# Altium footprint library PcbLib.PcbLib: 21 footprints (part 2 of 2)
Each footprint in its own frame and in the unit in brackets; x right, y up, seen from the top. Pads: shape width x height; smd on the part's side, far side on the other; paste and mask are expansions set on the pad; w line width, h text height; cw(c..) or ccw(c..) is an arc to the next point about the centre after c.
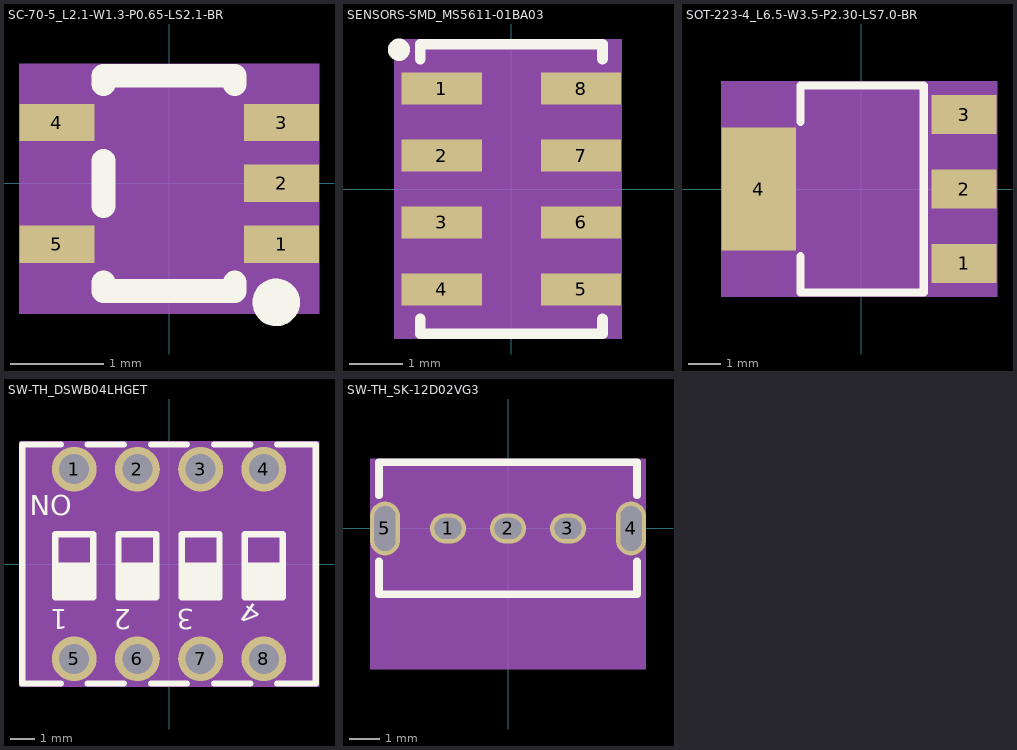
[diagram p1: the footprints below, top view; thin cyan lines are the x and y axes]

## SC-70-5_L2.1-W1.3-P0.65-LS2.1-BR [mm]
pads (5):
  rect 0.8x0.4 smd: 1(1.2,-0.65) 2(1.2,0) 3(1.2,0.65) 4(-1.2,0.65) 5(-1.2,-0.65)
Top Overlay:
  circle w0.254: c1.143,-1.27 r0.127
  lines w0.254: -0.7,-1.058 -0.7,-1.15 0.7,-1.15 0.7,-1.058 ; -0.7,-0.242 -0.7,0.242 ; -0.7,1.058 -0.7,1.15 0.7,1.15 0.7,1.058
Mechanical 4:
  region: -1.604,1.277 1.6,1.277 1.6,-1.393 -1.604,-1.393
Mechanical 5:
  region: 0.8,-0.45 1.6,-0.45 1.6,-0.85 0.8,-0.85
  region: 0.8,0.2 1.6,0.2 1.6,-0.2 0.8,-0.2
  region: 0.8,0.85 1.6,0.85 1.6,0.45 0.8,0.45
  region: -1.6,0.85 -0.8,0.85 -0.8,0.45 -1.6,0.45
  region: -1.6,-0.45 -0.8,-0.45 -0.8,-0.85 -1.6,-0.85

## SENSORS-SMD_MS5611-01BA03 [mm]
pads (8):
  rect 1.5x0.6 smd: 1(-1.3,1.875) 2(-1.3,0.625) 3(-1.3,-0.625) 4(-1.3,-1.875) 5(1.3,-1.875) 6(1.3,-0.625) 7(1.3,0.625) 8(1.3,1.875)
Top Overlay:
  lines w0.2: -1.7,-2.425 -1.7,-2.7 1.7,-2.7 1.7,-2.425 ; -1.7,2.425 -1.7,2.7 1.7,2.7 1.7,2.425
  lines w0.254: -2.019,2.598 cw(c-2.099,2.6) -2.019,2.601
Mechanical 4:
  region: -2.184,2.8 2.057,2.8 2.057,-2.8 -2.184,-2.8
Mechanical 5:
  region: -2.05,2.175 -0.55,2.175 -0.55,1.575 -2.05,1.575
  region: -2.05,0.925 -0.55,0.925 -0.55,0.325 -2.05,0.325
  region: -2.05,-0.325 -0.55,-0.325 -0.55,-0.925 -2.05,-0.925
  region: -2.05,-1.575 -0.55,-1.575 -0.55,-2.175 -2.05,-2.175
  region: 0.55,-1.575 2.05,-1.575 2.05,-2.175 0.55,-2.175
  region: 0.55,-0.325 2.05,-0.325 2.05,-0.925 0.55,-0.925
  region: 0.55,0.925 2.05,0.925 2.05,0.325 0.55,0.325
  region: 0.55,2.175 2.05,2.175 2.05,1.575 0.55,1.575

## SOT-223-4_L6.5-W3.5-P2.30-LS7.0-BR [mm]
pads (4):
  rect 2x1.2 smd: 1(3.175,-2.3) 2(3.175,0) 3(3.175,2.3)
  rect 2.3x3.8 smd: 4(-3.175,0)
Top Overlay:
  lines w0.254: -1.875,-2.075 -1.875,-3.2 1.925,-3.2 1.925,3.2 -1.875,3.2 -1.875,2.075
Mechanical 4:
  region: -4.325,3.327 4.19,3.327 4.19,-3.327 -4.325,-3.327
Mechanical 5:
  region: 2.175,-1.7 4.175,-1.7 4.175,-2.9 2.175,-2.9
  region: 2.175,2.9 4.175,2.9 4.175,1.7 2.175,1.7
  region: 2.175,0.6 4.175,0.6 4.175,-0.6 2.175,-0.6
  region: -4.325,1.9 -2.025,1.9 -2.025,-1.9 -4.325,-1.9

## SW-TH_DSWB04LHGET [mm]
pads (8):
  round 1.8 hole 1.2: 1(-3.81,3.81) 2(-1.27,3.81) 3(1.27,3.81) 4(3.81,3.81) 5(-3.81,-3.81) 6(-1.27,-3.81) 7(1.27,-3.81) 8(3.81,-3.81)
Top Overlay:
  lines w0.254: -4.572,-1.087 -3.048,-1.087 ; -4.572,-0.833 -3.048,-0.833 ; -4.572,-0.579 -3.048,-0.579 ; -4.572,-0.325 -3.048,-0.325 ; -4.572,-0.071 -3.048,-0.071 ; -4.354,-4.8 -5.9,-4.8 -5.9,4.8 -4.354,4.8 ; -3.266,-4.8 -1.814,-4.8 ; -3.266,4.8 -1.814,4.8 ; -2.032,-1.087 -0.508,-1.087 ; -2.032,-0.833 -0.508,-0.833 ; -2.032,-0.579 -0.508,-0.579 ; -2.032,-0.325 -0.508,-0.325 ; -2.032,-0.071 -0.508,-0.071 ; -0.726,-4.8 0.726,-4.8 ; -0.726,4.8 0.726,4.8 ; 0.508,-1.087 2.032,-1.087 ; 0.508,-0.833 2.032,-0.833 ; 0.508,-0.579 2.032,-0.579 ; 0.508,-0.325 2.032,-0.325 ; 0.508,-0.071 2.032,-0.071 ; 1.814,-4.8 3.266,-4.8 ; 1.814,4.8 3.266,4.8 ; 3.048,-1.087 4.572,-1.087 ; 3.048,-0.833 4.572,-0.833 ; 3.048,-0.579 4.572,-0.579 ; 3.048,-0.325 4.572,-0.325 ; 3.048,-0.071 4.572,-0.071 ; 4.354,-4.8 5.9,-4.8 5.9,4.8 4.354,4.8 ; -4.572,-1.341 -4.572,1.199 -3.048,1.199 -3.048,-1.341 -4.572,-1.341 ; -2.032,-1.341 -2.032,1.199 -0.508,1.199 -0.508,-1.341 -2.032,-1.341 ; 0.508,-1.341 0.508,1.199 2.032,1.199 2.032,-1.341 0.508,-1.341 ; 3.048,-1.341 3.048,1.199 4.572,1.199 4.572,-1.341 3.048,-1.341
  text "4" at 3.785,-1.887 h0.8
  text "3" at 1.016,-1.815 h0.8
  text "2" at -1.524,-1.815 h0.8
  text "1" at -4.064,-1.815 h0.8
  text "NO" at -5.588,1.957 h0.8
Mechanical 4:
  region: -6.027,4.927 6.027,4.927 6.027,-4.927 -6.027,-4.927
Mechanical 5:
  region: 2.91,4.71 4.71,4.71 4.71,2.91 2.91,2.91
  region: 0.37,4.71 2.17,4.71 2.17,2.91 0.37,2.91
  region: 2.91,-2.91 4.71,-2.91 4.71,-4.71 2.91,-4.71
  region: 0.37,-2.91 2.17,-2.91 2.17,-4.71 0.37,-4.71
  region: -2.17,4.71 -0.37,4.71 -0.37,2.91 -2.17,2.91
  region: -4.71,4.71 -2.91,4.71 -2.91,2.91 -4.71,2.91
  region: -2.17,-2.91 -0.37,-2.91 -0.37,-4.71 -2.17,-4.71
  region: -4.71,-2.91 -2.91,-2.91 -2.91,-4.71 -4.71,-4.71

## SW-TH_SK-12D02VG3 [mm]
pads (5):
  oval 1.2x1 hole 0.7 slot 0.9 at 0 deg: 1(-2,0) 2(0,0) 3(2,0)
  oval 1x1.8 hole 0.7 slot 1.5 at 90 deg: 4(4.1,0) 5(-4.1,0)
Top Overlay:
  lines w0.254: -4.3,-1.103 -4.3,-2.2 4.3,-2.2 4.3,-1.103 ; -4.3,1.103 -4.3,2.2 4.3,2.2 4.3,1.103
Mechanical 4:
  region: -4.6,2.327 4.6,2.327 4.6,-4.699 -4.6,-4.699
Mechanical 5:
  region: -4.6,0.9 -3.6,0.9 -3.6,-0.9 -4.6,-0.9
  region: 3.6,0.9 4.6,0.9 4.6,-0.9 3.6,-0.9
  region: 1.399,0.5 2.599,0.5 2.599,-0.5 1.399,-0.5
  region: -0.6,0.5 0.6,0.5 0.6,-0.5 -0.6,-0.5
  region: -2.599,0.5 -1.399,0.5 -1.399,-0.5 -2.599,-0.5
Mechanical 15:
  lines w0.254: -2.032,-2.286 -2.032,-4.572 0,-4.572 0,-2.286